# EAGLE library part M5-BGA352 (library amd-mach)
AMD MACH SERIES
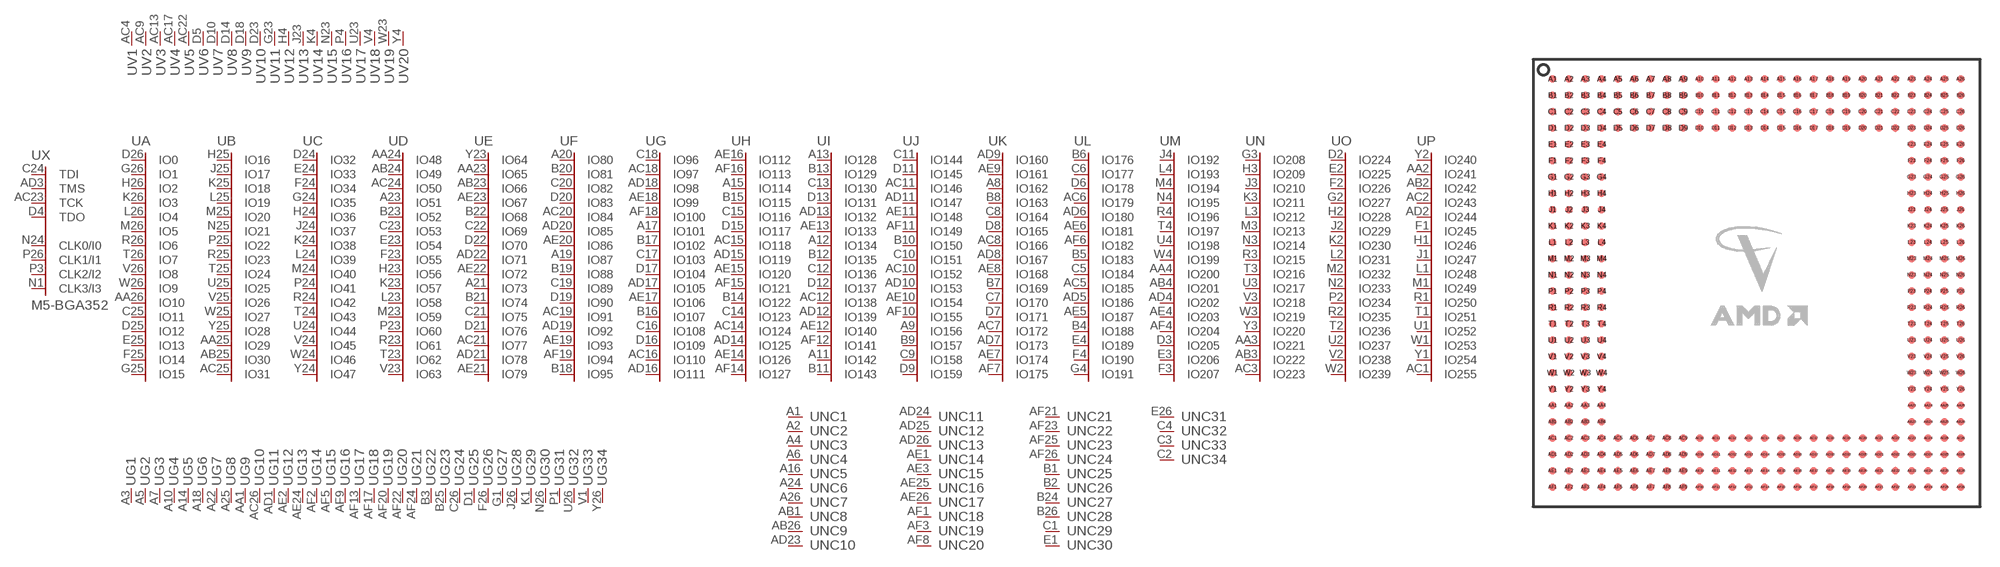
[diagram p19: symbol with the pads of GBA352S; footprint GBA352S]

Designator prefix U; gates X=M5-CTRL A=IO15 B=IO31 C=IO47 D=IO63 E=IO79 F=IO95 G=IO111 H=IO127 I=IO143 J=IO159 K=IO175 L=IO191 M=IO207 N=IO223 O=IO239 P=IO255 V1=VCC V2=VCC V3=VCC V4=VCC V5=VCC V6=VCC V7=VCC V8=VCC V9=VCC V10=VCC V11=VCC V12=VCC V13=VCC V14=VCC V15=VCC V16=VCC V17=VCC V18=VCC V19=VCC V20=VCC G1=GND G2=GND G3=GND G4=GND G5=GND G6=GND G7=GND G8=GND G9=GND G10=GND G11=GND G12=GND G13=GND G14=GND G15=GND G16=GND G17=GND G18=GND G19=GND G20=GND G21=GND G22=GND G23=GND NC1=NC NC2=NC NC3=NC NC4=NC NC5=NC NC6=NC NC7=NC NC8=NC NC9=NC NC10=NC NC11=NC NC12=NC NC13=NC NC14=NC NC15=NC NC16=NC NC17=NC NC18=NC NC19=NC NC20=NC NC21=NC NC22=NC NC23=NC NC24=NC NC25=NC NC26=NC NC27=NC NC28=NC NC29=NC NC30=NC G24=GND G25=GND G26=GND G27=GND G28=GND G29=GND G30=GND G31=GND G32=GND NC31=NC NC32=NC NC33=NC NC34=NC G33=GND G34=GND

## M5-BGA352  [GBA352S]
A1  NC1:NC  nc
A2  NC2:NC  nc
A3  G1:GND  pwr
A4  NC3:NC  nc
A5  G2:GND  pwr
A6  NC4:NC  nc
A7  G3:GND  pwr
A8  K:IO162
A9  J:IO156
A10  G4:GND  pwr
A11  I:IO142
A12  I:IO134
A13  I:IO128
A14  G5:GND  pwr
A15  H:IO114
A16  NC5:NC  nc
A17  G:IO101
A18  G6:GND  pwr
A19  F:IO87
A20  F:IO80
A21  E:IO73
A22  G7:GND  pwr
A23  D:IO51
A24  NC6:NC  nc
A25  G8:GND  pwr
A26  NC7:NC  nc
AA1  G9:GND  pwr
AA2  P:IO241
AA3  N:IO221
AA4  M:IO200
AA23  E:IO65
AA24  D:IO48
AA25  B:IO29
AA26  A:IO10
AB1  NC8:NC  nc
AB2  P:IO242
AB3  N:IO222
AB4  M:IO201
AB23  E:IO66
AB24  D:IO49
AB25  B:IO30
AB26  NC9:NC  nc
AC1  P:IO255
AC2  P:IO243
AC3  N:IO223
AC4  V1:VCC  pwr
AC5  L:IO185
AC6  L:IO179
AC7  K:IO172
AC8  K:IO166
AC9  V2:VCC  pwr
AC10  J:IO152
AC11  J:IO146
AC12  I:IO138
AC13  V3:VCC  pwr
AC14  H:IO124
AC15  H:IO118
AC16  G:IO110
AC17  V4:VCC  pwr
AC18  G:IO97
AC19  F:IO91
AC20  F:IO84
AC21  E:IO77
AC22  V5:VCC  pwr
AC23  X:TCK  in
AC24  D:IO50
AC25  B:IO31
AC26  G10:GND  pwr
AD1  G11:GND  pwr
AD2  P:IO244
AD3  X:TMS  in
AD4  M:IO202
AD5  L:IO186
AD6  L:IO180
AD7  K:IO173
AD8  K:IO167
AD9  K:IO160
AD10  J:IO153
AD11  J:IO147
AD12  I:IO139
AD13  I:IO132
AD14  H:IO125
AD15  H:IO119
AD16  G:IO111
AD17  G:IO105
AD18  G:IO98
AD19  F:IO92
AD20  F:IO85
AD21  E:IO78
AD22  E:IO71
AD23  NC10:NC  nc
AD24  NC11:NC  nc
AD25  NC12:NC  nc
AD26  NC13:NC  nc
AE1  NC14:NC  nc
AE2  G12:GND  pwr
AE3  NC15:NC  nc
AE4  M:IO203
AE5  L:IO187
AE6  L:IO181
AE7  K:IO174
AE8  K:IO168
AE9  K:IO161
AE10  J:IO154
AE11  J:IO148
AE12  I:IO140
AE13  I:IO133
AE14  H:IO126
AE15  H:IO120
AE16  H:IO112
AE17  G:IO106
AE18  G:IO99
AE19  F:IO93
AE20  F:IO86
AE21  E:IO79
AE22  E:IO72
AE23  E:IO67
AE24  G13:GND  pwr
AE25  NC16:NC  nc
AE26  NC17:NC  nc
AF1  NC18:NC  nc
AF2  G14:GND  pwr
AF3  NC19:NC  nc
AF4  M:IO204
AF5  G15:GND  pwr
AF6  L:IO182
AF7  K:IO175
AF8  NC20:NC  nc
AF9  G16:GND  pwr
AF10  J:IO155
AF11  J:IO149
AF12  I:IO141
AF13  G17:GND  pwr
AF14  H:IO127
AF15  H:IO121
AF16  H:IO113
AF17  G18:GND  pwr
AF18  G:IO100
AF19  F:IO94
AF20  G19:GND  pwr
AF21  NC21:NC  nc
AF22  G20:GND  pwr
AF23  NC22:NC  nc
AF24  G21:GND  pwr
AF25  NC23:NC  nc
AF26  NC24:NC  nc
B1  NC25:NC  nc
B2  NC26:NC  nc
B3  G22:GND  pwr
B4  L:IO188
B5  L:IO183
B6  L:IO176
B7  K:IO169
B8  K:IO163
B9  J:IO157
B10  J:IO150
B11  I:IO143
B12  I:IO135
B13  I:IO129
B14  H:IO122
B15  H:IO115
B16  G:IO107
B17  G:IO102
B18  F:IO95
B19  F:IO88
B20  F:IO81
B21  E:IO74
B22  E:IO68
B23  D:IO52
B24  NC27:NC  nc
B25  G23:GND  pwr
B26  NC28:NC  nc
C1  NC29:NC  nc
C2  NC34:NC  nc
C3  NC33:NC  nc
C4  NC32:NC  nc
C5  L:IO184
C6  L:IO177
C7  K:IO170
C8  K:IO164
C9  J:IO158
C10  J:IO151
C11  J:IO144
C12  I:IO136
C13  I:IO130
C14  H:IO123
C15  H:IO116
C16  G:IO108
C17  G:IO103
C18  G:IO96
C19  F:IO89
C20  F:IO82
C21  E:IO75
C22  E:IO69
C23  D:IO53
C24  X:TDI  in
C25  A:IO11
C26  G24:GND  pwr
D1  G25:GND  pwr
D2  O:IO224
D3  M:IO205
D4  X:TDO  in
D5  V6:VCC  pwr
D6  L:IO178
D7  K:IO171
D8  K:IO165
D9  J:IO159
D10  V7:VCC  pwr
D11  J:IO145
D12  I:IO137
D13  I:IO131
D14  V8:VCC  pwr
D15  H:IO117
D16  G:IO109
D17  G:IO104
D18  V9:VCC  pwr
D19  F:IO90
D20  F:IO83
D21  E:IO76
D22  E:IO70
D23  V10:VCC  pwr
D24  C:IO32
D25  A:IO12
D26  A:IO0
E1  NC30:NC  nc
E2  O:IO225
E3  M:IO206
E4  L:IO189
E23  D:IO54
E24  C:IO33
E25  A:IO13
E26  NC31:NC  nc
F1  P:IO245
F2  O:IO226
F3  M:IO207
F4  L:IO190
F23  D:IO55
F24  C:IO34
F25  A:IO14
F26  G26:GND  pwr
G1  G27:GND  pwr
G2  O:IO227
G3  N:IO208
G4  L:IO191
G23  V11:VCC  pwr
G24  C:IO35
G25  A:IO15
G26  A:IO1
H1  P:IO246
H2  O:IO228
H3  N:IO209
H4  V12:VCC  pwr
H23  D:IO56
H24  C:IO36
H25  B:IO16
H26  A:IO2
J1  P:IO247
J2  O:IO229
J3  N:IO210
J4  M:IO192
J23  V13:VCC  pwr
J24  C:IO37
J25  B:IO17
J26  G28:GND  pwr
K1  G29:GND  pwr
K2  O:IO230
K3  N:IO211
K4  V14:VCC  pwr
K23  D:IO57
K24  C:IO38
K25  B:IO18
K26  A:IO3
L1  P:IO248
L2  O:IO231
L3  N:IO212
L4  M:IO193
L23  D:IO58
L24  C:IO39
L25  B:IO19
L26  A:IO4
M1  P:IO249
M2  O:IO232
M3  N:IO213
M4  M:IO194
M23  D:IO59
M24  C:IO40
M25  B:IO20
M26  A:IO5
N1  X:CLK3/I3  in
N2  O:IO233
N3  N:IO214
N4  M:IO195
N23  V15:VCC  pwr
N24  X:CLK0/I0  in
N25  B:IO21
N26  G30:GND  pwr
P1  G31:GND  pwr
P2  O:IO234
P3  X:CLK2/I2  in
P4  V16:VCC  pwr
P23  D:IO60
P24  C:IO41
P25  B:IO22
P26  X:CLK1/I1  in
R1  P:IO250
R2  O:IO235
R3  N:IO215
R4  M:IO196
R23  D:IO61
R24  C:IO42
R25  B:IO23
R26  A:IO6
T1  P:IO251
T2  O:IO236
T3  N:IO216
T4  M:IO197
T23  D:IO62
T24  C:IO43
T25  B:IO24
T26  A:IO7
U1  P:IO252
U2  O:IO237
U3  N:IO217
U4  M:IO198
U23  V17:VCC  pwr
U24  C:IO44
U25  B:IO25
U26  G32:GND  pwr
V1  G33:GND  pwr
V2  O:IO238
V3  N:IO218
V4  V18:VCC  pwr
V23  D:IO63
V24  C:IO45
V25  B:IO26
V26  A:IO8
W1  P:IO253
W2  O:IO239
W3  N:IO219
W4  M:IO199
W23  V19:VCC  pwr
W24  C:IO46
W25  B:IO27
W26  A:IO9
Y1  P:IO254
Y2  P:IO240
Y3  N:IO220
Y4  V20:VCC  pwr
Y23  E:IO64
Y24  C:IO47
Y25  B:IO28
Y26  G34:GND  pwr

## Footprint GBA352S (pad centres in mm)
Ball Grid Array square
smd 0.6 x 0.6: A1 -15.875,15.875; A2 -14.605,15.875; A3 -13.335,15.875; A4 -12.065,15.875; A5 -10.795,15.875; A6 -9.525,15.875; A7 -8.255,15.875; A8 -6.985,15.875; A9 -5.715,15.875; A10 -4.445,15.875; A11 -3.175,15.875; A12 -1.905,15.875; A13 -0.635,15.875; A14 0.635,15.875; A15 1.905,15.875; A16 3.175,15.875; A17 4.445,15.875; A18 5.715,15.875; A19 6.985,15.875; A20 8.255,15.875; A21 9.525,15.875; A22 10.795,15.875; A23 12.065,15.875; A24 13.335,15.875; A25 14.605,15.875; A26 15.875,15.875; AA1 -15.875,-9.525; AA2 -14.605,-9.525; AA3 -13.335,-9.525; AA4 -12.065,-9.525; AA23 12.065,-9.525; AA24 13.335,-9.525; AA25 14.605,-9.525; AA26 15.875,-9.525; AB1 -15.875,-10.795; AB2 -14.605,-10.795; AB3 -13.335,-10.795; AB4 -12.065,-10.795; AB23 12.065,-10.795; AB24 13.335,-10.795; AB25 14.605,-10.795; AB26 15.875,-10.795; AC1 -15.875,-12.065; AC2 -14.605,-12.065; AC3 -13.335,-12.065; AC4 -12.065,-12.065; AC5 -10.795,-12.065; AC6 -9.525,-12.065; AC7 -8.255,-12.065; AC8 -6.985,-12.065; AC9 -5.715,-12.065; AC10 -4.445,-12.065; AC11 -3.175,-12.065; AC12 -1.905,-12.065; AC13 -0.635,-12.065; AC14 0.635,-12.065; AC15 1.905,-12.065; AC16 3.175,-12.065; AC17 4.445,-12.065; AC18 5.715,-12.065; AC19 6.985,-12.065; AC20 8.255,-12.065; AC21 9.525,-12.065; AC22 10.795,-12.065; AC23 12.065,-12.065; AC24 13.335,-12.065; AC25 14.605,-12.065; AC26 15.875,-12.065; AD1 -15.875,-13.335; AD2 -14.605,-13.335; AD3 -13.335,-13.335; AD4 -12.065,-13.335; AD5 -10.795,-13.335; AD6 -9.525,-13.335; AD7 -8.255,-13.335; AD8 -6.985,-13.335; AD9 -5.715,-13.335; AD10 -4.445,-13.335; AD11 -3.175,-13.335; AD12 -1.905,-13.335; AD13 -0.635,-13.335; AD14 0.635,-13.335; AD15 1.905,-13.335; AD16 3.175,-13.335; AD17 4.445,-13.335; AD18 5.715,-13.335; AD19 6.985,-13.335; AD20 8.255,-13.335; AD21 9.525,-13.335; AD22 10.795,-13.335; AD23 12.065,-13.335; AD24 13.335,-13.335; AD25 14.605,-13.335; AD26 15.875,-13.335; AE1 -15.875,-14.605; AE2 -14.605,-14.605; AE3 -13.335,-14.605; AE4 -12.065,-14.605; AE5 -10.795,-14.605; AE6 -9.525,-14.605; AE7 -8.255,-14.605; AE8 -6.985,-14.605; AE9 -5.715,-14.605; AE10 -4.445,-14.605; AE11 -3.175,-14.605; AE12 -1.905,-14.605; AE13 -0.635,-14.605; AE14 0.635,-14.605; AE15 1.905,-14.605; AE16 3.175,-14.605; AE17 4.445,-14.605; AE18 5.715,-14.605; AE19 6.985,-14.605; AE20 8.255,-14.605; AE21 9.525,-14.605; AE22 10.795,-14.605; AE23 12.065,-14.605; AE24 13.335,-14.605; AE25 14.605,-14.605; AE26 15.875,-14.605; AF1 -15.875,-15.875; AF2 -14.605,-15.875; AF3 -13.335,-15.875; AF4 -12.065,-15.875; AF5 -10.795,-15.875; AF6 -9.525,-15.875; AF7 -8.255,-15.875; AF8 -6.985,-15.875; AF9 -5.715,-15.875; AF10 -4.445,-15.875; AF11 -3.175,-15.875; AF12 -1.905,-15.875; AF13 -0.635,-15.875; AF14 0.635,-15.875; AF15 1.905,-15.875; AF16 3.175,-15.875; AF17 4.445,-15.875; AF18 5.715,-15.875; AF19 6.985,-15.875; AF20 8.255,-15.875; AF21 9.525,-15.875; AF22 10.795,-15.875; AF23 12.065,-15.875; AF24 13.335,-15.875; AF25 14.605,-15.875; AF26 15.875,-15.875; B1 -15.875,14.605; B2 -14.605,14.605; B3 -13.335,14.605; B4 -12.065,14.605; B5 -10.795,14.605; B6 -9.525,14.605; B7 -8.255,14.605; B8 -6.985,14.605; B9 -5.715,14.605; B10 -4.445,14.605; B11 -3.175,14.605; B12 -1.905,14.605; B13 -0.635,14.605; B14 0.635,14.605; B15 1.905,14.605; B16 3.175,14.605; B17 4.445,14.605; B18 5.715,14.605; B19 6.985,14.605; B20 8.255,14.605; B21 9.525,14.605; B22 10.795,14.605; B23 12.065,14.605; B24 13.335,14.605; B25 14.605,14.605; B26 15.875,14.605; C1 -15.875,13.335; C2 -14.605,13.335; C3 -13.335,13.335; C4 -12.065,13.335; C5 -10.795,13.335; C6 -9.525,13.335; C7 -8.255,13.335; C8 -6.985,13.335; C9 -5.715,13.335; C10 -4.445,13.335; C11 -3.175,13.335; C12 -1.905,13.335; C13 -0.635,13.335; C14 0.635,13.335; C15 1.905,13.335; C16 3.175,13.335; C17 4.445,13.335; C18 5.715,13.335; C19 6.985,13.335; C20 8.255,13.335; C21 9.525,13.335; C22 10.795,13.335; C23 12.065,13.335; C24 13.335,13.335; C25 14.605,13.335; C26 15.875,13.335; D1 -15.875,12.065; D2 -14.605,12.065; D3 -13.335,12.065; D4 -12.065,12.065; D5 -10.795,12.065; D6 -9.525,12.065; D7 -8.255,12.065; D8 -6.985,12.065; D9 -5.715,12.065; D10 -4.445,12.065; D11 -3.175,12.065; D12 -1.905,12.065; D13 -0.635,12.065; D14 0.635,12.065; D15 1.905,12.065; D16 3.175,12.065; D17 4.445,12.065; D18 5.715,12.065; D19 6.985,12.065; D20 8.255,12.065; D21 9.525,12.065; D22 10.795,12.065; D23 12.065,12.065; D24 13.335,12.065; D25 14.605,12.065; D26 15.875,12.065; E1 -15.875,10.795; E2 -14.605,10.795; E3 -13.335,10.795; E4 -12.065,10.795; E23 12.065,10.795; E24 13.335,10.795; E25 14.605,10.795; E26 15.875,10.795; F1 -15.875,9.525; F2 -14.605,9.525; F3 -13.335,9.525; F4 -12.065,9.525; F23 12.065,9.525; F24 13.335,9.525; F25 14.605,9.525; F26 15.875,9.525; G1 -15.875,8.255; G2 -14.605,8.255; G3 -13.335,8.255; G4 -12.065,8.255; G23 12.065,8.255; G24 13.335,8.255; G25 14.605,8.255; G26 15.875,8.255; H1 -15.875,6.985; H2 -14.605,6.985; H3 -13.335,6.985; H4 -12.065,6.985; H23 12.065,6.985; H24 13.335,6.985; H25 14.605,6.985; H26 15.875,6.985; J1 -15.875,5.715; J2 -14.605,5.715; J3 -13.335,5.715; J4 -12.065,5.715; J23 12.065,5.715; J24 13.335,5.715; J25 14.605,5.715; J26 15.875,5.715; K1 -15.875,4.445; K2 -14.605,4.445; K3 -13.335,4.445; K4 -12.065,4.445; K23 12.065,4.445; K24 13.335,4.445; K25 14.605,4.445; K26 15.875,4.445; L1 -15.875,3.175; L2 -14.605,3.175; L3 -13.335,3.175; L4 -12.065,3.175; L23 12.065,3.175; L24 13.335,3.175; L25 14.605,3.175; L26 15.875,3.175; M1 -15.875,1.905; M2 -14.605,1.905; M3 -13.335,1.905; M4 -12.065,1.905; M23 12.065,1.905; M24 13.335,1.905; M25 14.605,1.905; M26 15.875,1.905; N1 -15.875,0.635; N2 -14.605,0.635; N3 -13.335,0.635; N4 -12.065,0.635; N23 12.065,0.635; N24 13.335,0.635; N25 14.605,0.635; N26 15.875,0.635; P1 -15.875,-0.635; P2 -14.605,-0.635; P3 -13.335,-0.635; P4 -12.065,-0.635; P23 12.065,-0.635; P24 13.335,-0.635; P25 14.605,-0.635; P26 15.875,-0.635; R1 -15.875,-1.905; R2 -14.605,-1.905; R3 -13.335,-1.905; R4 -12.065,-1.905; R23 12.065,-1.905; R24 13.335,-1.905; R25 14.605,-1.905; R26 15.875,-1.905; T1 -15.875,-3.175; T2 -14.605,-3.175; T3 -13.335,-3.175; T4 -12.065,-3.175; T23 12.065,-3.175; T24 13.335,-3.175; T25 14.605,-3.175; T26 15.875,-3.175; U1 -15.875,-4.445; U2 -14.605,-4.445; U3 -13.335,-4.445; U4 -12.065,-4.445; U23 12.065,-4.445; U24 13.335,-4.445; U25 14.605,-4.445; U26 15.875,-4.445; V1 -15.875,-5.715; V2 -14.605,-5.715; V3 -13.335,-5.715; V4 -12.065,-5.715; V23 12.065,-5.715; V24 13.335,-5.715; V25 14.605,-5.715; V26 15.875,-5.715; W1 -15.875,-6.985; W2 -14.605,-6.985; W3 -13.335,-6.985; W4 -12.065,-6.985; W23 12.065,-6.985; W24 13.335,-6.985; W25 14.605,-6.985; W26 15.875,-6.985; Y1 -15.875,-8.255; Y2 -14.605,-8.255; Y3 -13.335,-8.255; Y4 -12.065,-8.255; Y23 12.065,-8.255; Y24 13.335,-8.255; Y25 14.605,-8.255; Y26 15.875,-8.255